# Altium footprint library PcbLib1.PcbLib: 3 footprints
Each footprint in its own frame and in the unit in brackets; x right, y up, seen from the top. Pads: shape width x height; smd on the part's side, far side on the other; paste and mask are expansions set on the pad; w line width, h text height; cw(c..) or ccw(c..) is an arc to the next point about the centre after c.
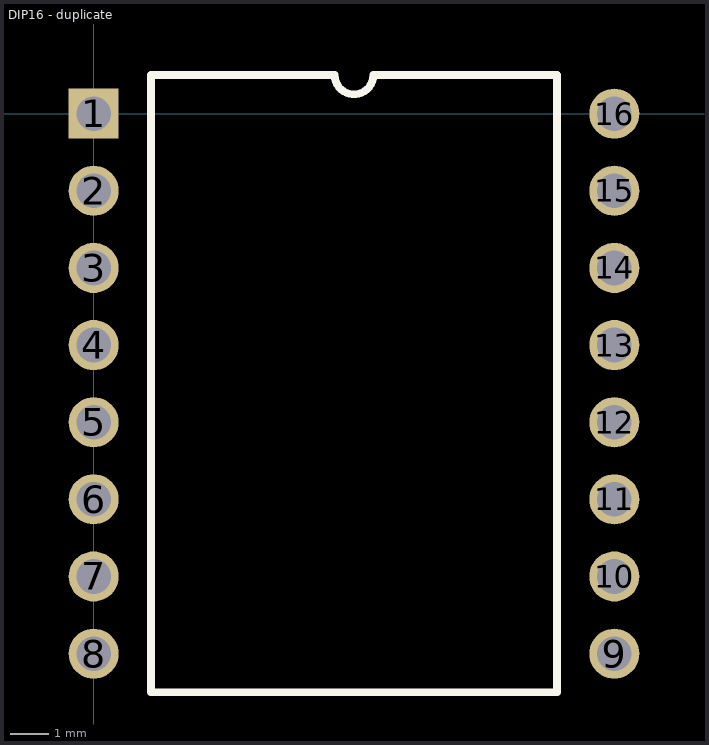
[diagram p0: the footprints below, top view; thin cyan lines are the x and y axes]

## DIP16 [mm]

## DIP16 - duplicate [mm]
pads (16):
  rect 1.3x1.3 hole 0.9: 1(0,0)
  round 1.3 hole 0.9: 2(0,-2) 3(0,-4) 4(0,-6) 5(0,-8) 6(0,-10) 7(0,-12) 8(0,-14) 9(13.5,-14) 10(13.5,-12) 11(13.5,-10) 12(13.5,-8) 13(13.5,-6) 14(13.5,-4) 15(13.5,-2) 16(13.5,0)
Top Overlay:
  lines w0.2: 1.485,-15 12.015,-15 12.015,1 7.25,1 cw(c6.75,1) 6.25,1 1.485,1 1.485,-15

## PCBComponent_1 [mm]